# EAGLE library part MHS221 (library lazurite)
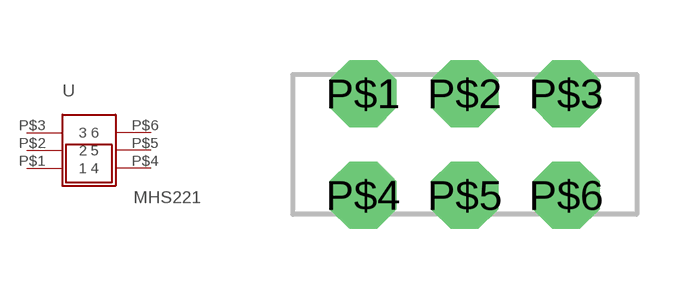
[diagram p7: symbol with the pads of MHS221; footprint MHS221]

Designator prefix -

## MHS221  [MHS221]
P$1  1
P$2  2
P$3  3
P$4  4
P$5  5
P$6  6

## Footprint MHS221 (pad centres in mm)
drill 1.016 pad 1.676 octagon: P$1 -2.54,1.27; P$2 0,1.27; P$3 2.54,1.27; P$4 -2.54,-1.27; P$5 0,-1.27; P$6 2.54,-1.27